# EAGLE library part XR16M581IL32-F (library Exar_By_element14_Batch_1)
UART WITH 16-BYTE FIFO AND VLIO INTERFACE
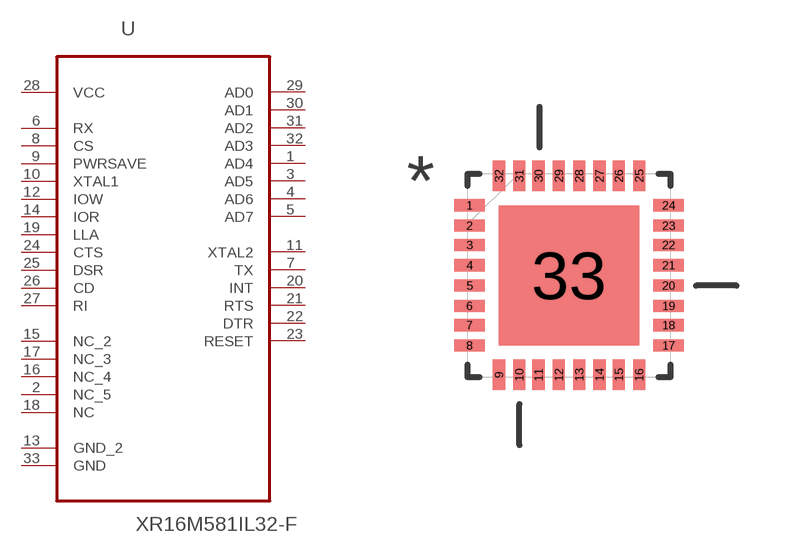
[diagram p67: symbol with the pads of QFN50P500X500X100-33N; footprint QFN50P500X500X100-33N]

Designator prefix U

## XR16M581IL32-F (MPN: XR16M581IL32-F; OC_FARNELL: 1829413; OC_NEWARK: 60R5479; PACKAGE: QFN-32; SUPPLIER: Exar)  [QFN50P500X500X100-33N]
1  AD4
2  NC_5  nc
3  AD5
4  AD6
5  AD7
6  RX  in
7  TX  out
8  CS  in
9  PWRSAVE  in
10  XTAL1  in
11  XTAL2  out
12  IOW  in
13  GND_2  pas
14  IOR  in
15  NC_2  nc
16  NC_4  nc
17  NC_3  nc
18  NC  nc
19  LLA  in
20  INT  out
21  RTS  out
22  DTR  out
23  RESET  out
24  CTS  in
25  DSR  in
26  CD  in
27  RI  in
28  VCC  pwr
29  AD0
30  AD1
31  AD2
32  AD3
33  GND  pas

## Footprint QFN50P500X500X100-33N (pad centres in mm)
smd 0.762 x 0.305: 1 -2.489,1.753; 2 -2.489,1.245; 3 -2.489,0.762; 4 -2.489,0.254; 5 -2.489,-0.254; 6 -2.489,-0.762; 7 -2.489,-1.245; 8 -2.489,-1.753; 17 2.489,-1.753; 18 2.489,-1.245; 19 2.489,-0.762; 20 2.489,-0.254; 21 2.489,0.254; 22 2.489,0.762; 23 2.489,1.245; 24 2.489,1.753
smd 0.305 x 0.762: 9 -1.753,-2.489; 10 -1.245,-2.489; 11 -0.762,-2.489; 12 -0.254,-2.489; 13 0.254,-2.489; 14 0.762,-2.489; 15 1.245,-2.489; 16 1.753,-2.489; 25 1.753,2.489; 26 1.245,2.489; 27 0.762,2.489; 28 0.254,2.489; 29 -0.254,2.489; 30 -0.762,2.489; 31 -1.245,2.489; 32 -1.753,2.489
smd 3.505 x 3.505: 33 0,0